# EAGLE library part CAN_MCP2551 (library custom)
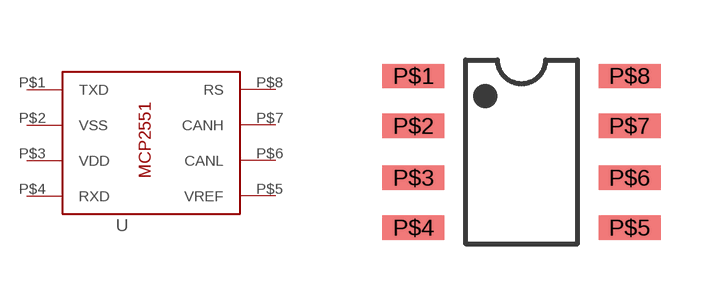
[diagram p31: symbol with the pads of SOIC_8N; footprint SOIC_8N]

Designator prefix -

## CAN_MCP2551  [SOIC_8N]
P$1  TXD
P$2  VSS
P$3  VDD
P$4  RXD
P$5  VREF
P$6  CANL
P$7  CANH
P$8  RS

## Footprint SOIC_8N (pad centres in mm)
smd 1.55 x 0.6: P$1 -2.7,1.9; P$2 -2.7,0.65; P$3 -2.7,-0.65; P$4 -2.7,-1.9; P$5 2.7,-1.9; P$6 2.7,-0.65; P$7 2.7,0.65; P$8 2.7,1.9